# Altium integrated library SparkFun-Boards.IntLib: 52 symbols
Pins are listed as number, name and electrical type; pins without a type are passive.

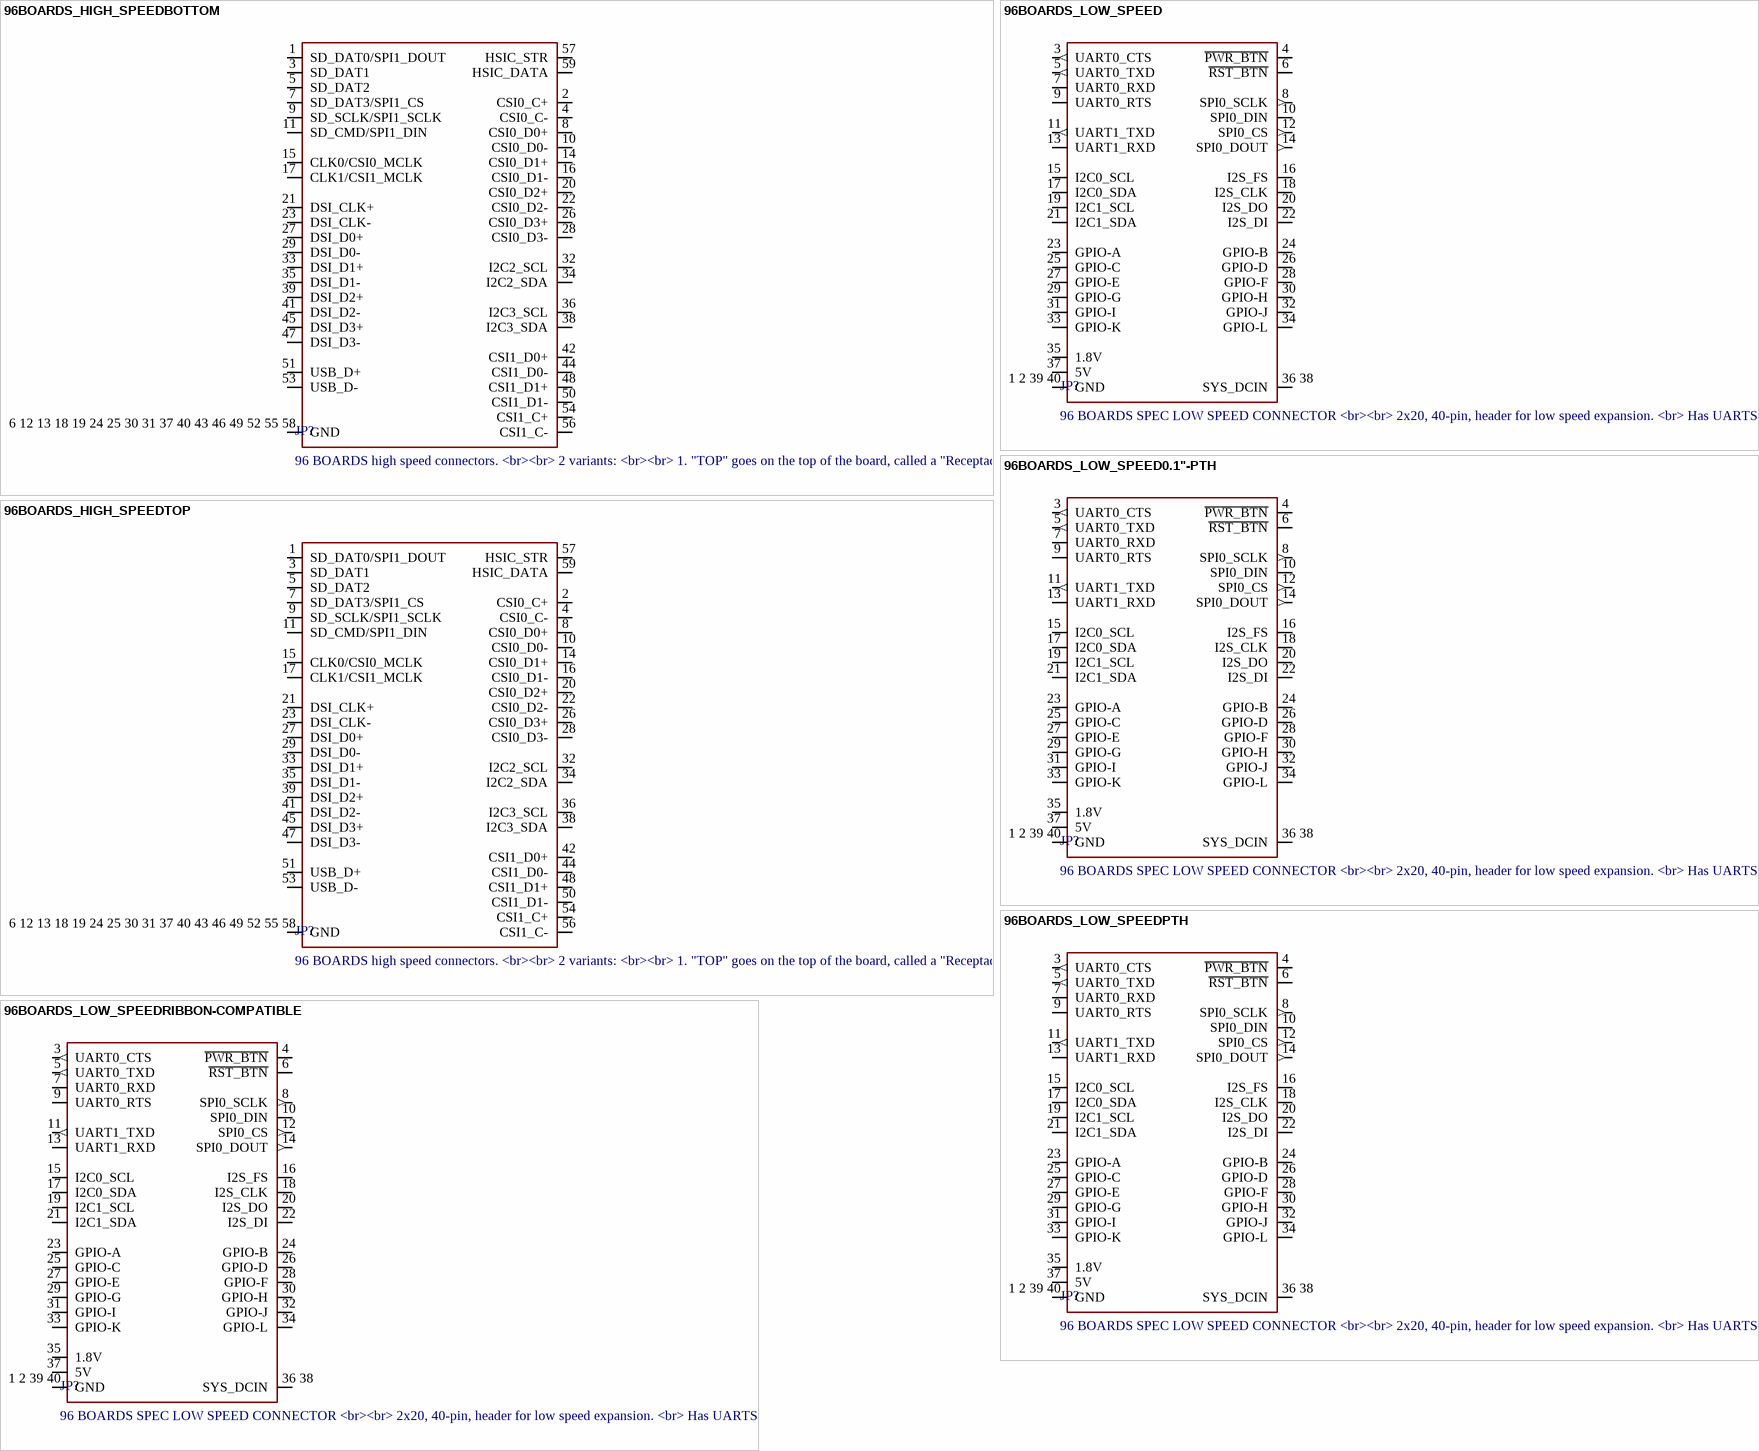
[diagram p0: symbols 96BOARDS_HIGH_SPEEDBOTTOM to 96BOARDS_LOW_SPEEDRIBBON-COMPATIBLE]

## 96BOARDS_HIGH_SPEEDBOTTOM
designator JP?, comment 96 BOARDS high speed connectors. / <br><br> / 2 variants: / <br><br> / 1. "TOP" goes on the top of the board, called a "Receptacale" in the parlance.  Candidate parts would be FCI/Bergquist 61082-061409LF / <br><br> / 2. "BOTTOM" goes on the bottom of a board.  Candidate parts would be FCI 61083-063409LF for 7mm board-to-board clearance, or  61083-064409LF for 8mm clearance. / <br><br> / If you're placing one on the bottom of a board, take care to mind the pin-1 orientation.
footprint 2X30-BERGSTAK-0.8MM-F
pins: 1 SD_DAT0/SPI1_DOUT, 2 CSI0_C+, 3 SD_DAT1, 4 CSI0_C-, 5 SD_DAT2, 6 12 13 18 19 24 25 30 31 37 40 43 46 49 52 55 58 GND, 7 SD_DAT3/SPI1_CS, 8 CSI0_D0+, 9 SD_SCLK/SPI1_SCLK, 10 CSI0_D0-, 11 SD_CMD/SPI1_DIN, 14 CSI0_D1+, 15 CLK0/CSI0_MCLK, 16 CSI0_D1-, 17 CLK1/CSI1_MCLK, 20 CSI0_D2+, 21 DSI_CLK+, 22 CSI0_D2-, 23 DSI_CLK-, 26 CSI0_D3+, 27 DSI_D0+, 28 CSI0_D3-, 29 DSI_D0-, 32 I2C2_SCL, 33 DSI_D1+, 34 I2C2_SDA, 35 DSI_D1-, 36 I2C3_SCL, 38 I2C3_SDA, 39 DSI_D2+, 41 DSI_D2-, 42 CSI1_D0+, 44 CSI1_D0-, 45 DSI_D3+, 47 DSI_D3-, 48 CSI1_D1+, 50 CSI1_D1-, 51 USB_D+, 53 USB_D-, 54 CSI1_C+, 56 CSI1_C-, 57 HSIC_STR, 59 HSIC_DATA

## 96BOARDS_HIGH_SPEEDTOP
designator JP?, comment 96 BOARDS high speed connectors. / <br><br> / 2 variants: / <br><br> / 1. "TOP" goes on the top of the board, called a "Receptacale" in the parlance.  Candidate parts would be FCI/Bergquist 61082-061409LF / <br><br> / 2. "BOTTOM" goes on the bottom of a board.  Candidate parts would be FCI 61083-063409LF for 7mm board-to-board clearance, or  61083-064409LF for 8mm clearance. / <br><br> / If you're placing one on the bottom of a board, take care to mind the pin-1 orientation.
footprint 2X30-BERGSTAK-0.8MM-M
pins: 1 SD_DAT0/SPI1_DOUT, 2 CSI0_C+, 3 SD_DAT1, 4 CSI0_C-, 5 SD_DAT2, 6 12 13 18 19 24 25 30 31 37 40 43 46 49 52 55 58 GND, 7 SD_DAT3/SPI1_CS, 8 CSI0_D0+, 9 SD_SCLK/SPI1_SCLK, 10 CSI0_D0-, 11 SD_CMD/SPI1_DIN, 14 CSI0_D1+, 15 CLK0/CSI0_MCLK, 16 CSI0_D1-, 17 CLK1/CSI1_MCLK, 20 CSI0_D2+, 21 DSI_CLK+, 22 CSI0_D2-, 23 DSI_CLK-, 26 CSI0_D3+, 27 DSI_D0+, 28 CSI0_D3-, 29 DSI_D0-, 32 I2C2_SCL, 33 DSI_D1+, 34 I2C2_SDA, 35 DSI_D1-, 36 I2C3_SCL, 38 I2C3_SDA, 39 DSI_D2+, 41 DSI_D2-, 42 CSI1_D0+, 44 CSI1_D0-, 45 DSI_D3+, 47 DSI_D3-, 48 CSI1_D1+, 50 CSI1_D1-, 51 USB_D+, 53 USB_D-, 54 CSI1_C+, 56 CSI1_C-, 57 HSIC_STR, 59 HSIC_DATA

## 96BOARDS_LOW_SPEED
designator JP?, comment 96 BOARDS SPEC LOW SPEED CONNECTOR <br><br> / 2x20, 40-pin, header for low speed expansion. <br> / Has UARTS, I2C, I2S, SPI and GPIO.<br><br> / * 2mm-pitch variant interfaces directly with the header on a 96-boards-compliant board.<br> / * 0.1-pitch version is for applications where the header has been translated to the larger, more available 0.1" 2x20 connector.<br><br> / For more details, see the spec at https://www.96boards.org
footprint 2X20-2MM-SHROUDED-RA-PTH
pins: 1 2 39 40 GND (power), 3 UART0_CTS (out), 4 ~{PWR_BTN}, 5 UART0_TXD (out), 6 ~{RST_BTN}, 7 UART0_RXD, 8 SPI0_SCLK (out), 9 UART0_RTS, 10 SPI0_DIN, 11 UART1_TXD (out), 12 SPI0_CS (out), 13 UART1_RXD, 14 SPI0_DOUT (out), 15 I2C0_SCL, 16 I2S_FS, 17 I2C0_SDA, 18 I2S_CLK, 19 I2C1_SCL, 20 I2S_DO, 21 I2C1_SDA, 22 I2S_DI, 23 GPIO-A, 24 GPIO-B, 25 GPIO-C, 26 GPIO-D, 27 GPIO-E, 28 GPIO-F, 29 GPIO-G, 30 GPIO-H, 31 GPIO-I, 32 GPIO-J, 33 GPIO-K, 34 GPIO-L, 35 1.8V (power), 36 38 SYS_DCIN (power), 37 5V (power)

## 96BOARDS_LOW_SPEED0.1"-PTH
designator JP?, comment 96 BOARDS SPEC LOW SPEED CONNECTOR <br><br> / 2x20, 40-pin, header for low speed expansion. <br> / Has UARTS, I2C, I2S, SPI and GPIO.<br><br> / * 2mm-pitch variant interfaces directly with the header on a 96-boards-compliant board.<br> / * 0.1-pitch version is for applications where the header has been translated to the larger, more available 0.1" 2x20 connector.<br><br> / For more details, see the spec at https://www.96boards.org
footprint 2X20-SHROUDED
pins: 1 2 39 40 GND (power), 3 UART0_CTS (out), 4 ~{PWR_BTN}, 5 UART0_TXD (out), 6 ~{RST_BTN}, 7 UART0_RXD, 8 SPI0_SCLK (out), 9 UART0_RTS, 10 SPI0_DIN, 11 UART1_TXD (out), 12 SPI0_CS (out), 13 UART1_RXD, 14 SPI0_DOUT (out), 15 I2C0_SCL, 16 I2S_FS, 17 I2C0_SDA, 18 I2S_CLK, 19 I2C1_SCL, 20 I2S_DO, 21 I2C1_SDA, 22 I2S_DI, 23 GPIO-A, 24 GPIO-B, 25 GPIO-C, 26 GPIO-D, 27 GPIO-E, 28 GPIO-F, 29 GPIO-G, 30 GPIO-H, 31 GPIO-I, 32 GPIO-J, 33 GPIO-K, 34 GPIO-L, 35 1.8V (power), 36 38 SYS_DCIN (power), 37 5V (power)

## 96BOARDS_LOW_SPEEDPTH
designator JP?, comment 96 BOARDS SPEC LOW SPEED CONNECTOR <br><br> / 2x20, 40-pin, header for low speed expansion. <br> / Has UARTS, I2C, I2S, SPI and GPIO.<br><br> / * 2mm-pitch variant interfaces directly with the header on a 96-boards-compliant board.<br> / * 0.1-pitch version is for applications where the header has been translated to the larger, more available 0.1" 2x20 connector.<br><br> / For more details, see the spec at https://www.96boards.org
footprint 2X20-2MM-SHROUDED-PTH
pins: 1 2 39 40 GND (power), 3 UART0_CTS (out), 4 ~{PWR_BTN}, 5 UART0_TXD (out), 6 ~{RST_BTN}, 7 UART0_RXD, 8 SPI0_SCLK (out), 9 UART0_RTS, 10 SPI0_DIN, 11 UART1_TXD (out), 12 SPI0_CS (out), 13 UART1_RXD, 14 SPI0_DOUT (out), 15 I2C0_SCL, 16 I2S_FS, 17 I2C0_SDA, 18 I2S_CLK, 19 I2C1_SCL, 20 I2S_DO, 21 I2C1_SDA, 22 I2S_DI, 23 GPIO-A, 24 GPIO-B, 25 GPIO-C, 26 GPIO-D, 27 GPIO-E, 28 GPIO-F, 29 GPIO-G, 30 GPIO-H, 31 GPIO-I, 32 GPIO-J, 33 GPIO-K, 34 GPIO-L, 35 1.8V (power), 36 38 SYS_DCIN (power), 37 5V (power)

## 96BOARDS_LOW_SPEEDRIBBON-COMPATIBLE
designator JP?, comment 96 BOARDS SPEC LOW SPEED CONNECTOR <br><br> / 2x20, 40-pin, header for low speed expansion. <br> / Has UARTS, I2C, I2S, SPI and GPIO.<br><br> / * 2mm-pitch variant interfaces directly with the header on a 96-boards-compliant board.<br> / * 0.1-pitch version is for applications where the header has been translated to the larger, more available 0.1" 2x20 connector.<br><br> / For more details, see the spec at https://www.96boards.org
footprint 2X20-2MM-SHROUDED-SMT-RIBBON-M
pins: 1 2 39 40 GND (power), 3 UART0_CTS (out), 4 ~{PWR_BTN}, 5 UART0_TXD (out), 6 ~{RST_BTN}, 7 UART0_RXD, 8 SPI0_SCLK (out), 9 UART0_RTS, 10 SPI0_DIN, 11 UART1_TXD (out), 12 SPI0_CS (out), 13 UART1_RXD, 14 SPI0_DOUT (out), 15 I2C0_SCL, 16 I2S_FS, 17 I2C0_SDA, 18 I2S_CLK, 19 I2C1_SCL, 20 I2S_DO, 21 I2C1_SDA, 22 I2S_DI, 23 GPIO-A, 24 GPIO-B, 25 GPIO-C, 26 GPIO-D, 27 GPIO-E, 28 GPIO-F, 29 GPIO-G, 30 GPIO-H, 31 GPIO-I, 32 GPIO-J, 33 GPIO-K, 34 GPIO-L, 35 1.8V (power), 36 38 SYS_DCIN (power), 37 5V (power)

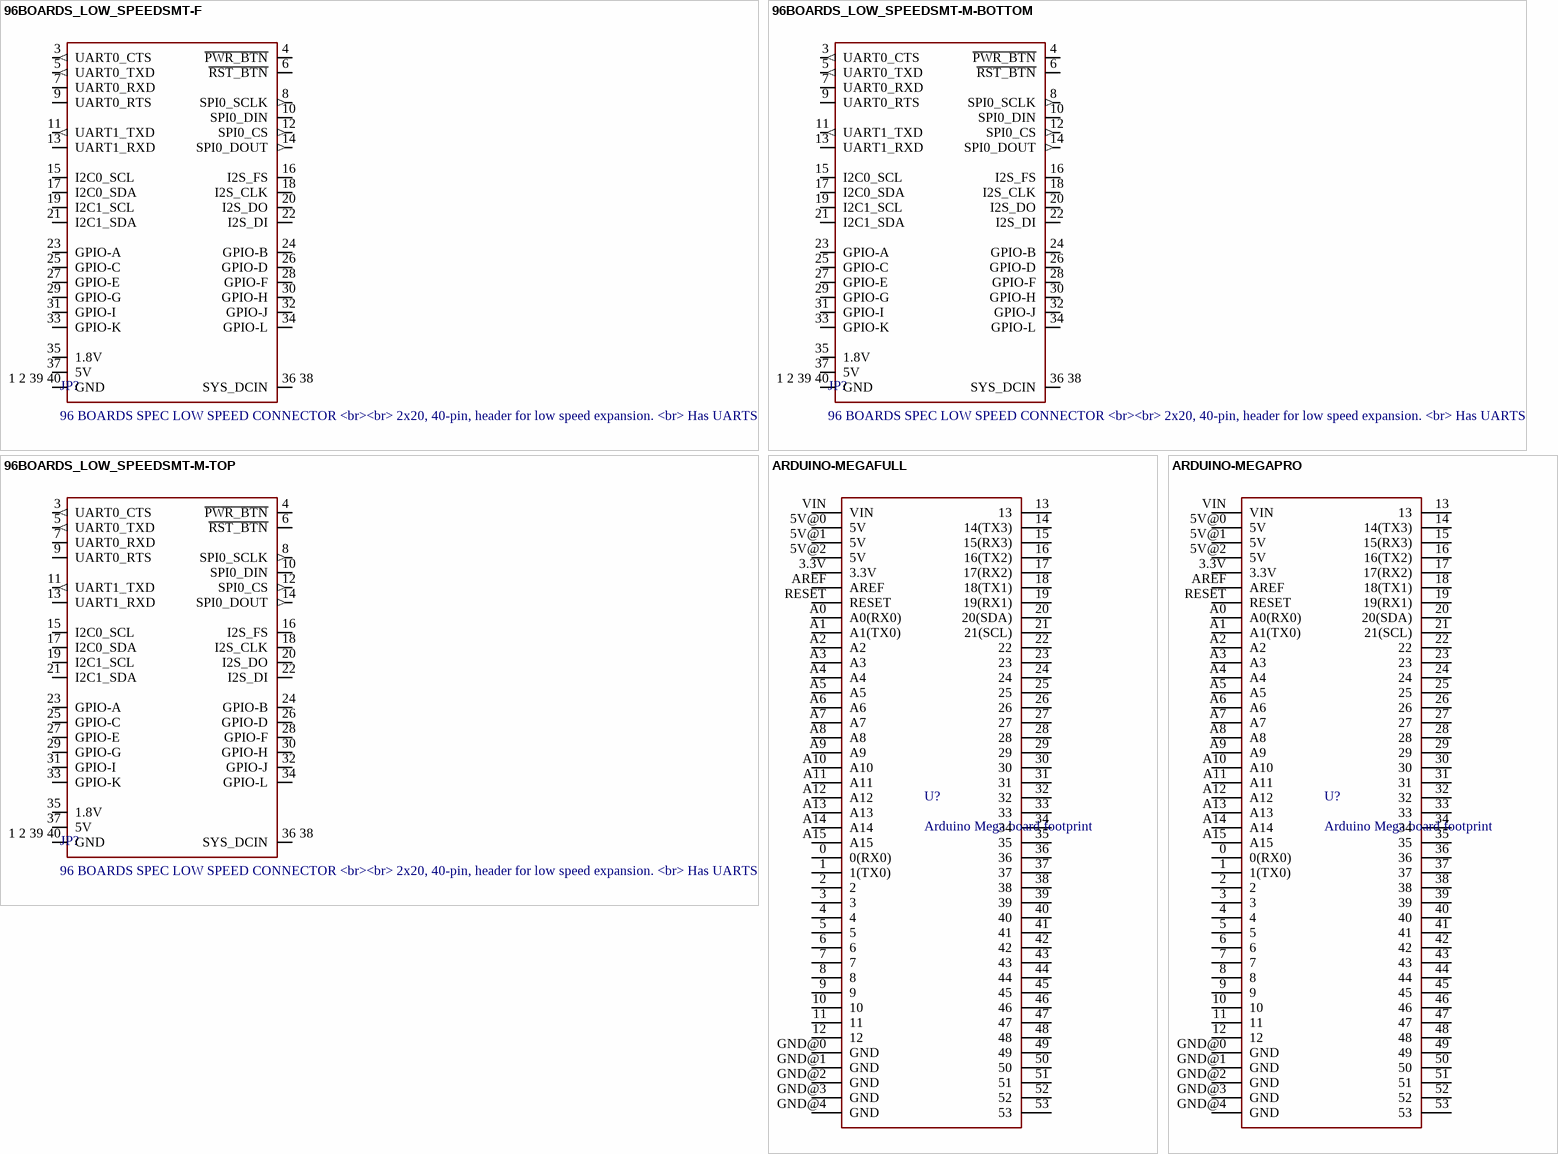
[diagram p1: symbols 96BOARDS_LOW_SPEEDSMT-F to ARDUINO-MEGAPRO]

## 96BOARDS_LOW_SPEEDSMT-F
designator JP?, comment 96 BOARDS SPEC LOW SPEED CONNECTOR <br><br> / 2x20, 40-pin, header for low speed expansion. <br> / Has UARTS, I2C, I2S, SPI and GPIO.<br><br> / * 2mm-pitch variant interfaces directly with the header on a 96-boards-compliant board.<br> / * 0.1-pitch version is for applications where the header has been translated to the larger, more available 0.1" 2x20 connector.<br><br> / For more details, see the spec at https://www.96boards.org
PROD_ID: CONN-12977
footprint 2X20-2MM-SMT-F
pins: 1 2 39 40 GND (power), 3 UART0_CTS (out), 4 ~{PWR_BTN}, 5 UART0_TXD (out), 6 ~{RST_BTN}, 7 UART0_RXD, 8 SPI0_SCLK (out), 9 UART0_RTS, 10 SPI0_DIN, 11 UART1_TXD (out), 12 SPI0_CS (out), 13 UART1_RXD, 14 SPI0_DOUT (out), 15 I2C0_SCL, 16 I2S_FS, 17 I2C0_SDA, 18 I2S_CLK, 19 I2C1_SCL, 20 I2S_DO, 21 I2C1_SDA, 22 I2S_DI, 23 GPIO-A, 24 GPIO-B, 25 GPIO-C, 26 GPIO-D, 27 GPIO-E, 28 GPIO-F, 29 GPIO-G, 30 GPIO-H, 31 GPIO-I, 32 GPIO-J, 33 GPIO-K, 34 GPIO-L, 35 1.8V (power), 36 38 SYS_DCIN (power), 37 5V (power)

## 96BOARDS_LOW_SPEEDSMT-M-BOTTOM
designator JP?, comment 96 BOARDS SPEC LOW SPEED CONNECTOR <br><br> / 2x20, 40-pin, header for low speed expansion. <br> / Has UARTS, I2C, I2S, SPI and GPIO.<br><br> / * 2mm-pitch variant interfaces directly with the header on a 96-boards-compliant board.<br> / * 0.1-pitch version is for applications where the header has been translated to the larger, more available 0.1" 2x20 connector.<br><br> / For more details, see the spec at https://www.96boards.org
PROD_ID: CONN-12975
footprint 2X20-2MM-SHROUDED-SMT-BOTTOM-M
pins: 1 2 39 40 GND (power), 3 UART0_CTS (out), 4 ~{PWR_BTN}, 5 UART0_TXD (out), 6 ~{RST_BTN}, 7 UART0_RXD, 8 SPI0_SCLK (out), 9 UART0_RTS, 10 SPI0_DIN, 11 UART1_TXD (out), 12 SPI0_CS (out), 13 UART1_RXD, 14 SPI0_DOUT (out), 15 I2C0_SCL, 16 I2S_FS, 17 I2C0_SDA, 18 I2S_CLK, 19 I2C1_SCL, 20 I2S_DO, 21 I2C1_SDA, 22 I2S_DI, 23 GPIO-A, 24 GPIO-B, 25 GPIO-C, 26 GPIO-D, 27 GPIO-E, 28 GPIO-F, 29 GPIO-G, 30 GPIO-H, 31 GPIO-I, 32 GPIO-J, 33 GPIO-K, 34 GPIO-L, 35 1.8V (power), 36 38 SYS_DCIN (power), 37 5V (power)

## 96BOARDS_LOW_SPEEDSMT-M-TOP
designator JP?, comment 96 BOARDS SPEC LOW SPEED CONNECTOR <br><br> / 2x20, 40-pin, header for low speed expansion. <br> / Has UARTS, I2C, I2S, SPI and GPIO.<br><br> / * 2mm-pitch variant interfaces directly with the header on a 96-boards-compliant board.<br> / * 0.1-pitch version is for applications where the header has been translated to the larger, more available 0.1" 2x20 connector.<br><br> / For more details, see the spec at https://www.96boards.org
PROD_ID: CONN-12975
footprint 2X20-2MM-SHROUDED-SMT-TOP-M
pins: 1 2 39 40 GND (power), 3 UART0_CTS (out), 4 ~{PWR_BTN}, 5 UART0_TXD (out), 6 ~{RST_BTN}, 7 UART0_RXD, 8 SPI0_SCLK (out), 9 UART0_RTS, 10 SPI0_DIN, 11 UART1_TXD (out), 12 SPI0_CS (out), 13 UART1_RXD, 14 SPI0_DOUT (out), 15 I2C0_SCL, 16 I2S_FS, 17 I2C0_SDA, 18 I2S_CLK, 19 I2C1_SCL, 20 I2S_DO, 21 I2C1_SDA, 22 I2S_DI, 23 GPIO-A, 24 GPIO-B, 25 GPIO-C, 26 GPIO-D, 27 GPIO-E, 28 GPIO-F, 29 GPIO-G, 30 GPIO-H, 31 GPIO-I, 32 GPIO-J, 33 GPIO-K, 34 GPIO-L, 35 1.8V (power), 36 38 SYS_DCIN (power), 37 5V (power)

## ARDUINO-MEGAFULL
designator U?, comment Arduino Mega board footprint
footprint ARDUINO_MEGA
pins: 0 0(RX0), 1 1(TX0), 2, 3, 3.3V, 4, 5, 5V@0 5V, 5V@1 5V, 5V@2 5V, 6, 7, 8, 9, 10, 11, 12, 13, 14 14(TX3), 15 15(RX3), 16 16(TX2), 17 17(RX2), 18 18(TX1), 19 19(RX1), 20 20(SDA), 21 21(SCL), 22, 23, 24, 25, 26, 27, 28, 29, 30, 31, 32, 33, 34, 35, 36, 37, 38, 39, 40, 41, 42, 43, 44, 45, 46, 47, 48, 49, 50, 51, 52, 53, A0 A0(RX0), A1 A1(TX0), A2, A3, A4, A5, A6, A7, A8, A9, A10, A11, A12, A13, A14, A15, AREF, GND@0 GND, GND@1 GND, GND@2 GND, GND@3 GND, GND@4 GND, RESET, VIN

## ARDUINO-MEGAPRO
designator U?, comment Arduino Mega board footprint
footprint ARDUINO_MEGA-PRO-3.3V
pins: 0 0(RX0), 1 1(TX0), 2, 3, 3.3V, 4, 5, 5V@0 5V, 5V@1 5V, 5V@2 5V, 6, 7, 8, 9, 10, 11, 12, 13, 14 14(TX3), 15 15(RX3), 16 16(TX2), 17 17(RX2), 18 18(TX1), 19 19(RX1), 20 20(SDA), 21 21(SCL), 22, 23, 24, 25, 26, 27, 28, 29, 30, 31, 32, 33, 34, 35, 36, 37, 38, 39, 40, 41, 42, 43, 44, 45, 46, 47, 48, 49, 50, 51, 52, 53, A0 A0(RX0), A1 A1(TX0), A2, A3, A4, A5, A6, A7, A8, A9, A10, A11, A12, A13, A14, A15, AREF, GND@0 GND, GND@1 GND, GND@2 GND, GND@3 GND, GND@4 GND, RESET, VIN

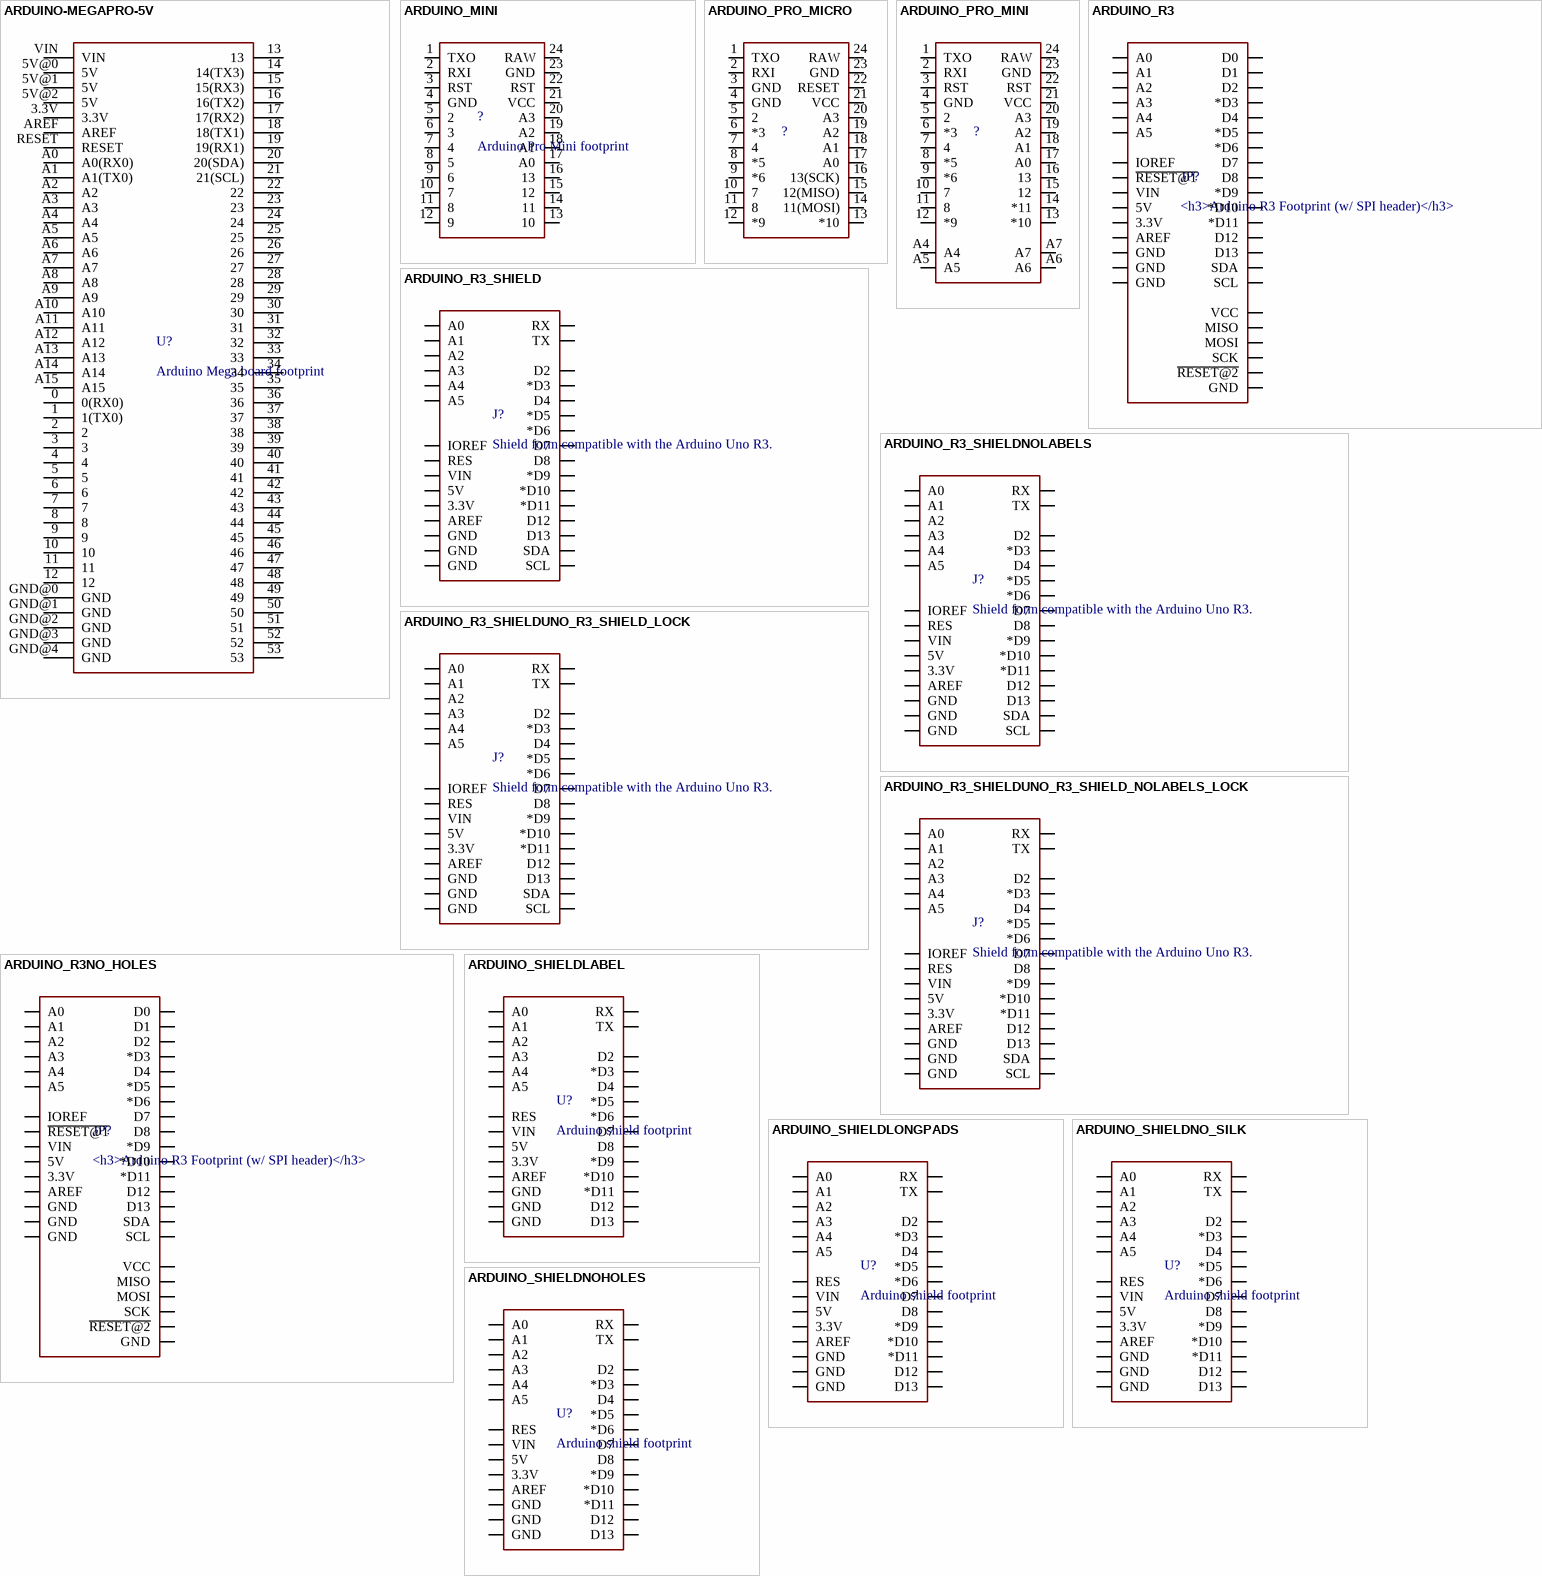
[diagram p2: symbols ARDUINO-MEGAPRO-5V to ARDUINO_SHIELDNOHOLES]

## ARDUINO-MEGAPRO-5V
designator U?, comment Arduino Mega board footprint
footprint ARDUINO_MEGA-PRO-5V
pins: 0 0(RX0), 1 1(TX0), 2, 3, 3.3V, 4, 5, 5V@0 5V, 5V@1 5V, 5V@2 5V, 6, 7, 8, 9, 10, 11, 12, 13, 14 14(TX3), 15 15(RX3), 16 16(TX2), 17 17(RX2), 18 18(TX1), 19 19(RX1), 20 20(SDA), 21 21(SCL), 22, 23, 24, 25, 26, 27, 28, 29, 30, 31, 32, 33, 34, 35, 36, 37, 38, 39, 40, 41, 42, 43, 44, 45, 46, 47, 48, 49, 50, 51, 52, 53, A0 A0(RX0), A1 A1(TX0), A2, A3, A4, A5, A6, A7, A8, A9, A10, A11, A12, A13, A14, A15, AREF, GND@0 GND, GND@1 GND, GND@2 GND, GND@3 GND, GND@4 GND, RESET, VIN

## ARDUINO_MINI
designator ?, comment Arduino Pro Mini footprint
footprint ARDUINO_MINI
pins: 1 TXO, 2 RXI, 3 RST, 4 GND, 5 2, 6 3, 7 4, 8 5, 9 6, 10 7, 11 8, 12 9, 13 10, 14 11, 15 12, 16 13, 17 A0, 18 A1, 19 A2, 20 A3, 21 VCC, 22 RST, 23 GND, 24 RAW

## ARDUINO_PRO_MICRO
designator ?
footprint ARDUINO_PRO_MICRO
pins: 1 TXO, 2 RXI, 3 GND, 4 GND, 5 2, 6 *3, 7 4, 8 *5, 9 *6, 10 7, 11 8, 12 *9, 13 *10, 14 11(MOSI), 15 12(MISO), 16 13(SCK), 17 A0, 18 A1, 19 A2, 20 A3, 21 VCC, 22 RESET, 23 GND, 24 RAW

## ARDUINO_PRO_MINI
designator ?
footprint ARDUINO_PRO_MINI
pins: 1 TXO, 2 RXI, 3 RST, 4 GND, 5 2, 6 *3, 7 4, 8 *5, 9 *6, 10 7, 11 8, 12 *9, 13 *10, 14 *11, 15 12, 16 13, 17 A0, 18 A1, 19 A2, 20 A3, 21 VCC, 22 RST, 23 GND, 24 RAW, A4, A5, A6, A7

## ARDUINO_R3
designator JP?, comment <h3>Arduino R3 Footprint (w/ SPI header)</h3>
footprint ARDUINO_R3
pins: 3.3V, 5V, A0, A1, A2, A3, A4, A5, AREF, D0, D1, D2, D3 *D3, D4, D5 *D5, D6 *D6, D7, D8, D9 *D9, D10 *D10, D11 *D11, D12, D13, GND@1 GND, GND@2 GND, GND@3 GND, GND@4 GND, IOREF, MISO, MOSI, RESET@1 ~{RESET@1}, RESET@2 ~{RESET@2}, SCK, SCL, SDA, VCC, VIN

## ARDUINO_R3_SHIELD
designator J?, comment Shield form compatible with the Arduino Uno R3.
footprint UNO_R3_SHIELD
pins: 3.3V, 5V, A0, A1, A2, A3, A4, A5, AREF, D2, D3 *D3, D4, D5 *D5, D6 *D6, D7, D8, D9 *D9, D10 *D10, D11 *D11, D12, D13, GND@0 GND, GND@1 GND, GND@2 GND, IOREF, RES, RX, SCL, SDA, TX, VIN

## ARDUINO_R3_SHIELDNOLABELS
designator J?, comment Shield form compatible with the Arduino Uno R3.
footprint UNO_R3_SHIELD_NOLABELS
pins: 3.3V, 5V, A0, A1, A2, A3, A4, A5, AREF, D2, D3 *D3, D4, D5 *D5, D6 *D6, D7, D8, D9 *D9, D10 *D10, D11 *D11, D12, D13, GND@0 GND, GND@1 GND, GND@2 GND, IOREF, RES, RX, SCL, SDA, TX, VIN

## ARDUINO_R3_SHIELDUNO_R3_SHIELD_LOCK
designator J?, comment Shield form compatible with the Arduino Uno R3.
footprint UNO_R3_SHIELD_LOCK
pins: 3.3V, 5V, A0, A1, A2, A3, A4, A5, AREF, D2, D3 *D3, D4, D5 *D5, D6 *D6, D7, D8, D9 *D9, D10 *D10, D11 *D11, D12, D13, GND@0 GND, GND@1 GND, GND@2 GND, IOREF, RES, RX, SCL, SDA, TX, VIN

## ARDUINO_R3_SHIELDUNO_R3_SHIELD_NOLABELS_LOCK
designator J?, comment Shield form compatible with the Arduino Uno R3.
footprint UNO_R3_SHIELD_NOLABELS_LOCK
pins: 3.3V, 5V, A0, A1, A2, A3, A4, A5, AREF, D2, D3 *D3, D4, D5 *D5, D6 *D6, D7, D8, D9 *D9, D10 *D10, D11 *D11, D12, D13, GND@0 GND, GND@1 GND, GND@2 GND, IOREF, RES, RX, SCL, SDA, TX, VIN

## ARDUINO_R3NO_HOLES
designator JP?, comment <h3>Arduino R3 Footprint (w/ SPI header)</h3>
footprint ARDUINO_R3_NO_HOLES
pins: 3.3V, 5V, A0, A1, A2, A3, A4, A5, AREF, D0, D1, D2, D3 *D3, D4, D5 *D5, D6 *D6, D7, D8, D9 *D9, D10 *D10, D11 *D11, D12, D13, GND@1 GND, GND@2 GND, GND@3 GND, GND@4 GND, IOREF, MISO, MOSI, RESET@1 ~{RESET@1}, RESET@2 ~{RESET@2}, SCK, SCL, SDA, VCC, VIN

## ARDUINO_SHIELDLABEL
designator U?, comment Arduino shield footprint
footprint DUEMILANOVE_SHIELD
pins: 3.3V, 5V, A0, A1, A2, A3, A4, A5, AREF, D2, D3 *D3, D4, D5 *D5, D6 *D6, D7, D8, D9 *D9, D10 *D10, D11 *D11, D12, D13, GND@0 GND, GND@1 GND, GND@2 GND, RES, RX, TX, VIN

## ARDUINO_SHIELDLONGPADS
designator U?, comment Arduino shield footprint
footprint DUEMILANOVE_SHIELD_LONGPADS
pins: 3.3V, 5V, A0, A1, A2, A3, A4, A5, AREF, D2, D3 *D3, D4, D5 *D5, D6 *D6, D7, D8, D9 *D9, D10 *D10, D11 *D11, D12, D13, GND@0 GND, GND@1 GND, GND@2 GND, RES, RX, TX, VIN

## ARDUINO_SHIELDNO_SILK
designator U?, comment Arduino shield footprint
footprint DUEMILANOVE_VIAS
pins: 3.3V, 5V, A0, A1, A2, A3, A4, A5, AREF, D2, D3 *D3, D4, D5 *D5, D6 *D6, D7, D8, D9 *D9, D10 *D10, D11 *D11, D12, D13, GND@0 GND, GND@1 GND, GND@2 GND, RES, RX, TX, VIN

## ARDUINO_SHIELDNOHOLES
designator U?, comment Arduino shield footprint
footprint DUEMILANOVE_SHIELD_NOHOLES
pins: 3.3V, 5V, A0, A1, A2, A3, A4, A5, AREF, D2, D3 *D3, D4, D5 *D5, D6 *D6, D7, D8, D9 *D9, D10 *D10, D11 *D11, D12, D13, GND@0 GND, GND@1 GND, GND@2 GND, RES, RX, TX, VIN

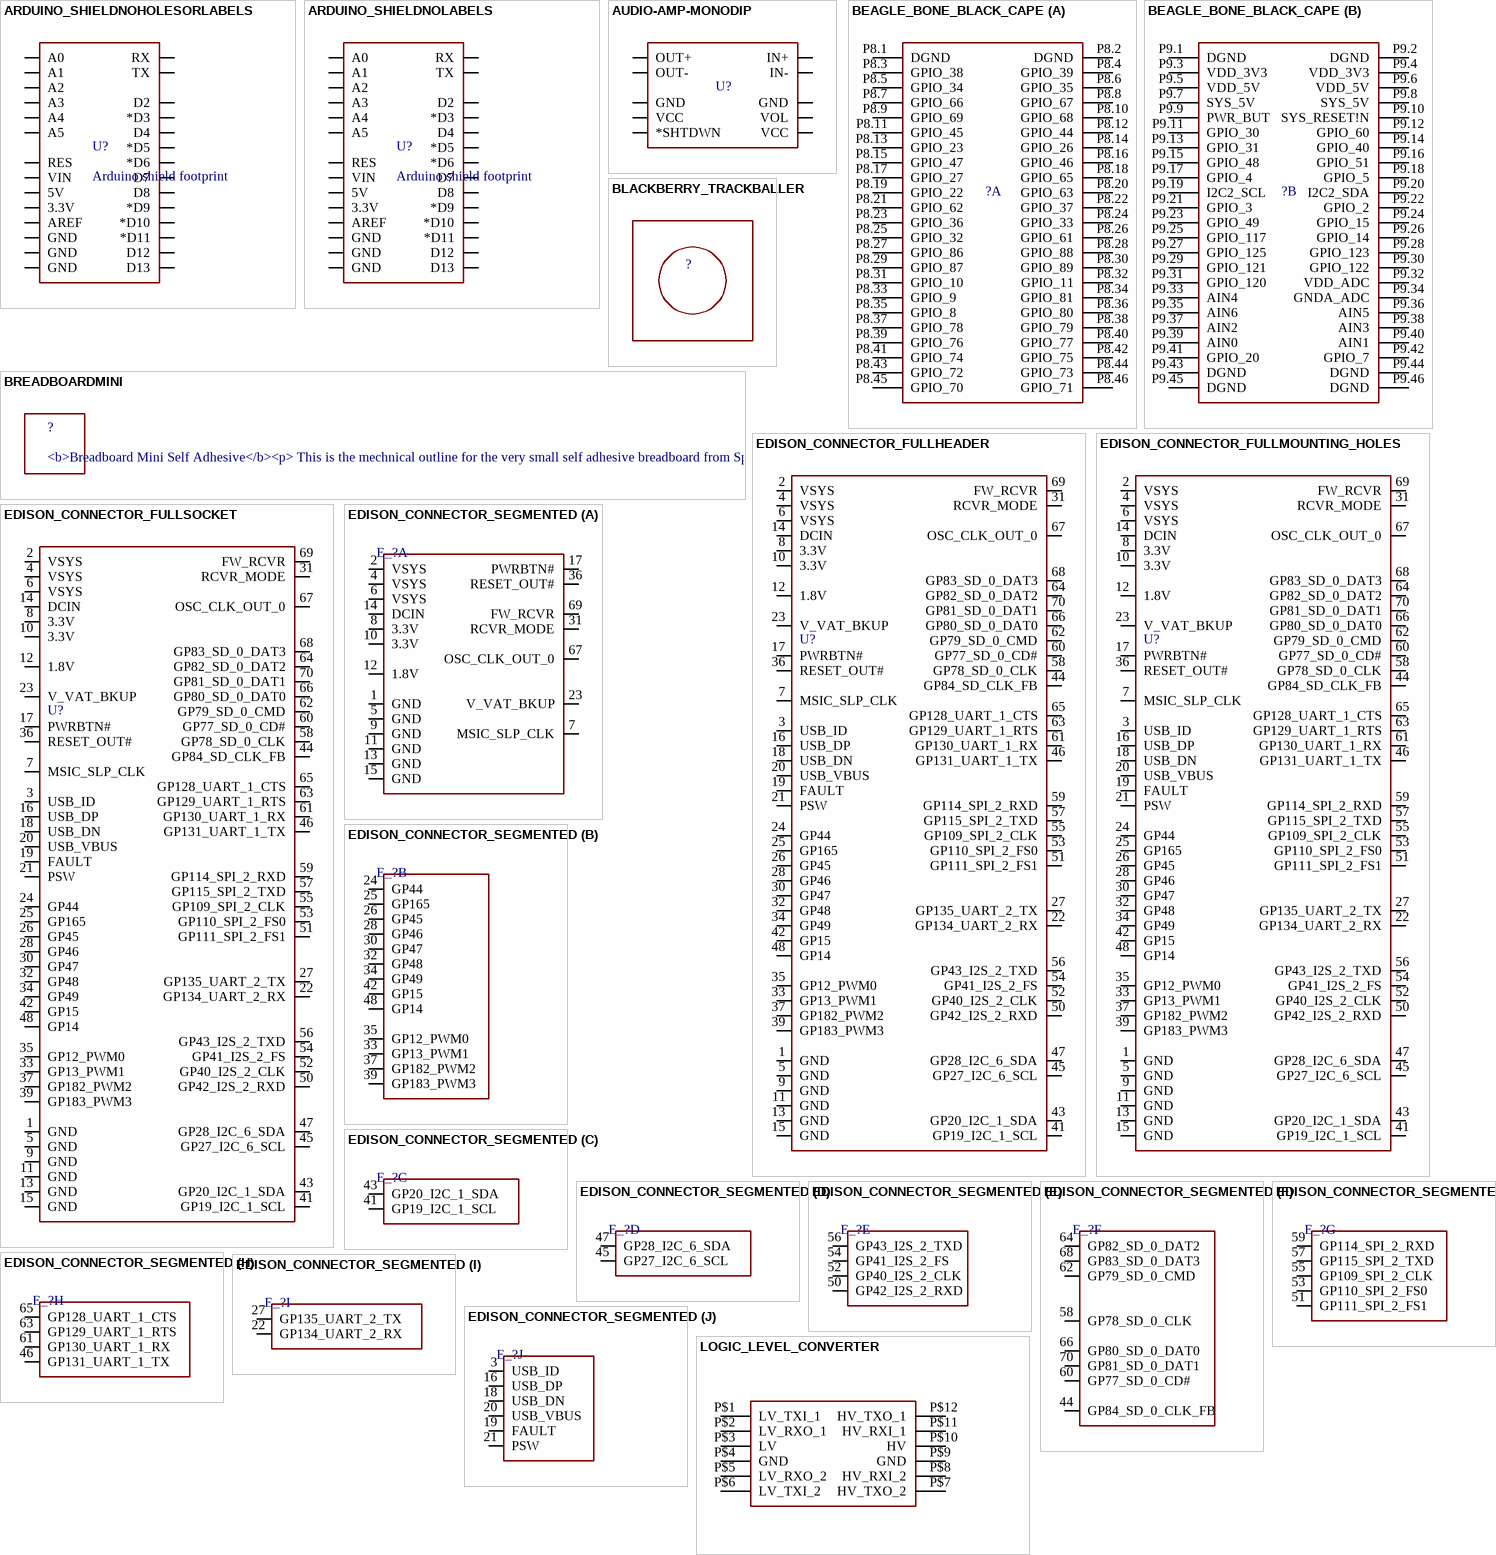
[diagram p3: symbols ARDUINO_SHIELDNOHOLESORLABELS to LOGIC_LEVEL_CONVERTER]

## ARDUINO_SHIELDNOHOLESORLABELS
designator U?, comment Arduino shield footprint
footprint DUEMILANOVE_SHIELD_NOHOLES_NOLABELS
pins: 3.3V, 5V, A0, A1, A2, A3, A4, A5, AREF, D2, D3 *D3, D4, D5 *D5, D6 *D6, D7, D8, D9 *D9, D10 *D10, D11 *D11, D12, D13, GND@0 GND, GND@1 GND, GND@2 GND, RES, RX, TX, VIN

## ARDUINO_SHIELDNOLABELS
designator U?, comment Arduino shield footprint
footprint DUEMILANOVE_SHIELD_NOLABELS
pins: 3.3V, 5V, A0, A1, A2, A3, A4, A5, AREF, D2, D3 *D3, D4, D5 *D5, D6 *D6, D7, D8, D9 *D9, D10 *D10, D11 *D11, D12, D13, GND@0 GND, GND@1 GND, GND@2 GND, RES, RX, TX, VIN

## AUDIO-AMP-MONODIP
designator U?
footprint AUDIO-AMP-MONO
pins: IN+, IN-, OUT+, OUT-, PWR+ VCC, PWR- GND, S *SHTDWN, VOL, VOL+ VCC, VOL- GND

## BEAGLE_BONE_BLACK_CAPE
designator ?
footprint BEAGLE_BONE_BLACK_CAPE
part A pins: P8.1 DGND, P8.2 DGND, P8.3 GPIO_38, P8.4 GPIO_39, P8.5 GPIO_34, P8.6 GPIO_35, P8.7 GPIO_66, P8.8 GPIO_67, P8.9 GPIO_69, P8.10 GPIO_68, P8.11 GPIO_45, P8.12 GPIO_44, P8.13 GPIO_23, P8.14 GPIO_26, P8.15 GPIO_47, P8.16 GPIO_46, P8.17 GPIO_27, P8.18 GPIO_65, P8.19 GPIO_22, P8.20 GPIO_63, P8.21 GPIO_62, P8.22 GPIO_37, P8.23 GPIO_36, P8.24 GPIO_33, P8.25 GPIO_32, P8.26 GPIO_61, P8.27 GPIO_86, P8.28 GPIO_88, P8.29 GPIO_87, P8.30 GPIO_89, P8.31 GPIO_10, P8.32 GPIO_11, P8.33 GPIO_9, P8.34 GPIO_81, P8.35 GPIO_8, P8.36 GPIO_80, P8.37 GPIO_78, P8.38 GPIO_79, P8.39 GPIO_76, P8.40 GPIO_77, P8.41 GPIO_74, P8.42 GPIO_75, P8.43 GPIO_72, P8.44 GPIO_73, P8.45 GPIO_70, P8.46 GPIO_71
part B pins: P9.1 DGND, P9.2 DGND, P9.3 VDD_3V3, P9.4 VDD_3V3, P9.5 VDD_5V, P9.6 VDD_5V, P9.7 SYS_5V, P9.8 SYS_5V, P9.9 PWR_BUT, P9.10 SYS_RESET!N, P9.11 GPIO_30, P9.12 GPIO_60, P9.13 GPIO_31, P9.14 GPIO_40, P9.15 GPIO_48, P9.16 GPIO_51, P9.17 GPIO_4, P9.18 GPIO_5, P9.19 I2C2_SCL, P9.20 I2C2_SDA, P9.21 GPIO_3, P9.22 GPIO_2, P9.23 GPIO_49, P9.24 GPIO_15, P9.25 GPIO_117, P9.26 GPIO_14, P9.27 GPIO_125, P9.28 GPIO_123, P9.29 GPIO_121, P9.30 GPIO_122, P9.31 GPIO_120, P9.32 VDD_ADC, P9.33 AIN4, P9.34 GNDA_ADC, P9.35 AIN6, P9.36 AIN5, P9.37 AIN2, P9.38 AIN3, P9.39 AIN0, P9.40 AIN1, P9.41 GPIO_20, P9.42 GPIO_7, P9.43 DGND, P9.44 DGND, P9.45 DGND, P9.46 DGND

## BLACKBERRY_TRACKBALLER
designator ?
PROD_ID: PCB-12486
footprint BLACKBERRY_TRACKBALLER

## BREADBOARDMINI
designator ?, comment <b>Breadboard Mini Self Adhesive</b><p> / This is the mechnical outline for the very small self adhesive breadboard from SparkFun Electronics. Good for very small proto areas. SKU : PRT-07916
footprint BREADBOARD-MINI

## EDISON_CONNECTOR_FULLHEADER
designator U?
footprint DF40C-70DP-0.4(51)
pins: 1 GND, 2 VSYS, 3 USB_ID, 4 VSYS, 5 GND, 6 VSYS, 7 MSIC_SLP_CLK, 8 3.3V, 9 GND, 10 3.3V, 11 GND, 12 1.8V, 13 GND, 14 DCIN, 15 GND, 16 USB_DP, 17 PWRBTN#, 18 USB_DN, 19 FAULT, 20 USB_VBUS, 21 PSW, 22 GP134_UART_2_RX, 23 V_VAT_BKUP, 24 GP44, 25 GP165, 26 GP45, 27 GP135_UART_2_TX, 28 GP46, 30 GP47, 31 RCVR_MODE, 32 GP48, 33 GP13_PWM1, 34 GP49, 35 GP12_PWM0, 36 RESET_OUT#, 37 GP182_PWM2, 39 GP183_PWM3, 41 GP19_I2C_1_SCL, 42 GP15, 43 GP20_I2C_1_SDA, 44 GP84_SD_CLK_FB, 45 GP27_I2C_6_SCL, 46 GP131_UART_1_TX, 47 GP28_I2C_6_SDA, 48 GP14, 50 GP42_I2S_2_RXD, 51 GP111_SPI_2_FS1, 52 GP40_I2S_2_CLK, 53 GP110_SPI_2_FS0, 54 GP41_I2S_2_FS, 55 GP109_SPI_2_CLK, 56 GP43_I2S_2_TXD, 57 GP115_SPI_2_TXD, 58 GP78_SD_0_CLK, 59 GP114_SPI_2_RXD, 60 GP77_SD_0_CD#, 61 GP130_UART_1_RX, 62 GP79_SD_0_CMD, 63 GP129_UART_1_RTS, 64 GP82_SD_0_DAT2, 65 GP128_UART_1_CTS, 66 GP80_SD_0_DAT0, 67 OSC_CLK_OUT_0, 68 GP83_SD_0_DAT3, 69 FW_RCVR, 70 GP81_SD_0_DAT1

## EDISON_CONNECTOR_FULLMOUNTING_HOLES
designator U?
footprint EDISON_DAUGHTER
pins: 1 GND, 2 VSYS, 3 USB_ID, 4 VSYS, 5 GND, 6 VSYS, 7 MSIC_SLP_CLK, 8 3.3V, 9 GND, 10 3.3V, 11 GND, 12 1.8V, 13 GND, 14 DCIN, 15 GND, 16 USB_DP, 17 PWRBTN#, 18 USB_DN, 19 FAULT, 20 USB_VBUS, 21 PSW, 22 GP134_UART_2_RX, 23 V_VAT_BKUP, 24 GP44, 25 GP165, 26 GP45, 27 GP135_UART_2_TX, 28 GP46, 30 GP47, 31 RCVR_MODE, 32 GP48, 33 GP13_PWM1, 34 GP49, 35 GP12_PWM0, 36 RESET_OUT#, 37 GP182_PWM2, 39 GP183_PWM3, 41 GP19_I2C_1_SCL, 42 GP15, 43 GP20_I2C_1_SDA, 44 GP84_SD_CLK_FB, 45 GP27_I2C_6_SCL, 46 GP131_UART_1_TX, 47 GP28_I2C_6_SDA, 48 GP14, 50 GP42_I2S_2_RXD, 51 GP111_SPI_2_FS1, 52 GP40_I2S_2_CLK, 53 GP110_SPI_2_FS0, 54 GP41_I2S_2_FS, 55 GP109_SPI_2_CLK, 56 GP43_I2S_2_TXD, 57 GP115_SPI_2_TXD, 58 GP78_SD_0_CLK, 59 GP114_SPI_2_RXD, 60 GP77_SD_0_CD#, 61 GP130_UART_1_RX, 62 GP79_SD_0_CMD, 63 GP129_UART_1_RTS, 64 GP82_SD_0_DAT2, 65 GP128_UART_1_CTS, 66 GP80_SD_0_DAT0, 67 OSC_CLK_OUT_0, 68 GP83_SD_0_DAT3, 69 FW_RCVR, 70 GP81_SD_0_DAT1

## EDISON_CONNECTOR_FULLSOCKET
designator U?
footprint DF40-XC-(X.X)-70DS-0.4V(51)
pins: 1 GND, 2 VSYS, 3 USB_ID, 4 VSYS, 5 GND, 6 VSYS, 7 MSIC_SLP_CLK, 8 3.3V, 9 GND, 10 3.3V, 11 GND, 12 1.8V, 13 GND, 14 DCIN, 15 GND, 16 USB_DP, 17 PWRBTN#, 18 USB_DN, 19 FAULT, 20 USB_VBUS, 21 PSW, 22 GP134_UART_2_RX, 23 V_VAT_BKUP, 24 GP44, 25 GP165, 26 GP45, 27 GP135_UART_2_TX, 28 GP46, 30 GP47, 31 RCVR_MODE, 32 GP48, 33 GP13_PWM1, 34 GP49, 35 GP12_PWM0, 36 RESET_OUT#, 37 GP182_PWM2, 39 GP183_PWM3, 41 GP19_I2C_1_SCL, 42 GP15, 43 GP20_I2C_1_SDA, 44 GP84_SD_CLK_FB, 45 GP27_I2C_6_SCL, 46 GP131_UART_1_TX, 47 GP28_I2C_6_SDA, 48 GP14, 50 GP42_I2S_2_RXD, 51 GP111_SPI_2_FS1, 52 GP40_I2S_2_CLK, 53 GP110_SPI_2_FS0, 54 GP41_I2S_2_FS, 55 GP109_SPI_2_CLK, 56 GP43_I2S_2_TXD, 57 GP115_SPI_2_TXD, 58 GP78_SD_0_CLK, 59 GP114_SPI_2_RXD, 60 GP77_SD_0_CD#, 61 GP130_UART_1_RX, 62 GP79_SD_0_CMD, 63 GP129_UART_1_RTS, 64 GP82_SD_0_DAT2, 65 GP128_UART_1_CTS, 66 GP80_SD_0_DAT0, 67 OSC_CLK_OUT_0, 68 GP83_SD_0_DAT3, 69 FW_RCVR, 70 GP81_SD_0_DAT1

## EDISON_CONNECTOR_SEGMENTED
designator E_?
footprint EDISON_DAUGHTER
part A pins: 1 GND, 2 VSYS, 4 VSYS, 5 GND, 6 VSYS, 7 MSIC_SLP_CLK, 8 3.3V, 9 GND, 10 3.3V, 11 GND, 12 1.8V, 13 GND, 14 DCIN, 15 GND, 17 PWRBTN#, 23 V_VAT_BKUP, 31 RCVR_MODE, 36 RESET_OUT#, 67 OSC_CLK_OUT_0, 69 FW_RCVR
part B pins: 24 GP44, 25 GP165, 26 GP45, 28 GP46, 30 GP47, 32 GP48, 33 GP13_PWM1, 34 GP49, 35 GP12_PWM0, 37 GP182_PWM2, 39 GP183_PWM3, 42 GP15, 48 GP14
part C pins: 41 GP19_I2C_1_SCL, 43 GP20_I2C_1_SDA
part D pins: 45 GP27_I2C_6_SCL, 47 GP28_I2C_6_SDA
part E pins: 50 GP42_I2S_2_RXD, 52 GP40_I2S_2_CLK, 54 GP41_I2S_2_FS, 56 GP43_I2S_2_TXD
part F pins: 44 GP84_SD_0_CLK_FB, 58 GP78_SD_0_CLK, 60 GP77_SD_0_CD#, 62 GP79_SD_0_CMD, 64 GP82_SD_0_DAT2, 66 GP80_SD_0_DAT0, 68 GP83_SD_0_DAT3, 70 GP81_SD_0_DAT1
part G pins: 51 GP111_SPI_2_FS1, 53 GP110_SPI_2_FS0, 55 GP109_SPI_2_CLK, 57 GP115_SPI_2_TXD, 59 GP114_SPI_2_RXD
part H pins: 46 GP131_UART_1_TX, 61 GP130_UART_1_RX, 63 GP129_UART_1_RTS, 65 GP128_UART_1_CTS
part I pins: 22 GP134_UART_2_RX, 27 GP135_UART_2_TX
part J pins: 3 USB_ID, 16 USB_DP, 18 USB_DN, 19 FAULT, 20 USB_VBUS, 21 PSW

## LOGIC_LEVEL_CONVERTER
designator ?, comment Logic Level Converter (3.3v - 5v) / https://www.sparkfun.com/products/8745
footprint LOGIC_LEVEL_CONVERTER
pins: P$1 LV_TXI_1, P$2 LV_RXO_1, P$3 LV, P$4 GND, P$5 LV_RXO_2, P$6 LV_TXI_2, P$7 HV_TXO_2, P$8 HV_RXI_2, P$9 GND, P$10 HV, P$11 HV_RXI_1, P$12 HV_TXO_1

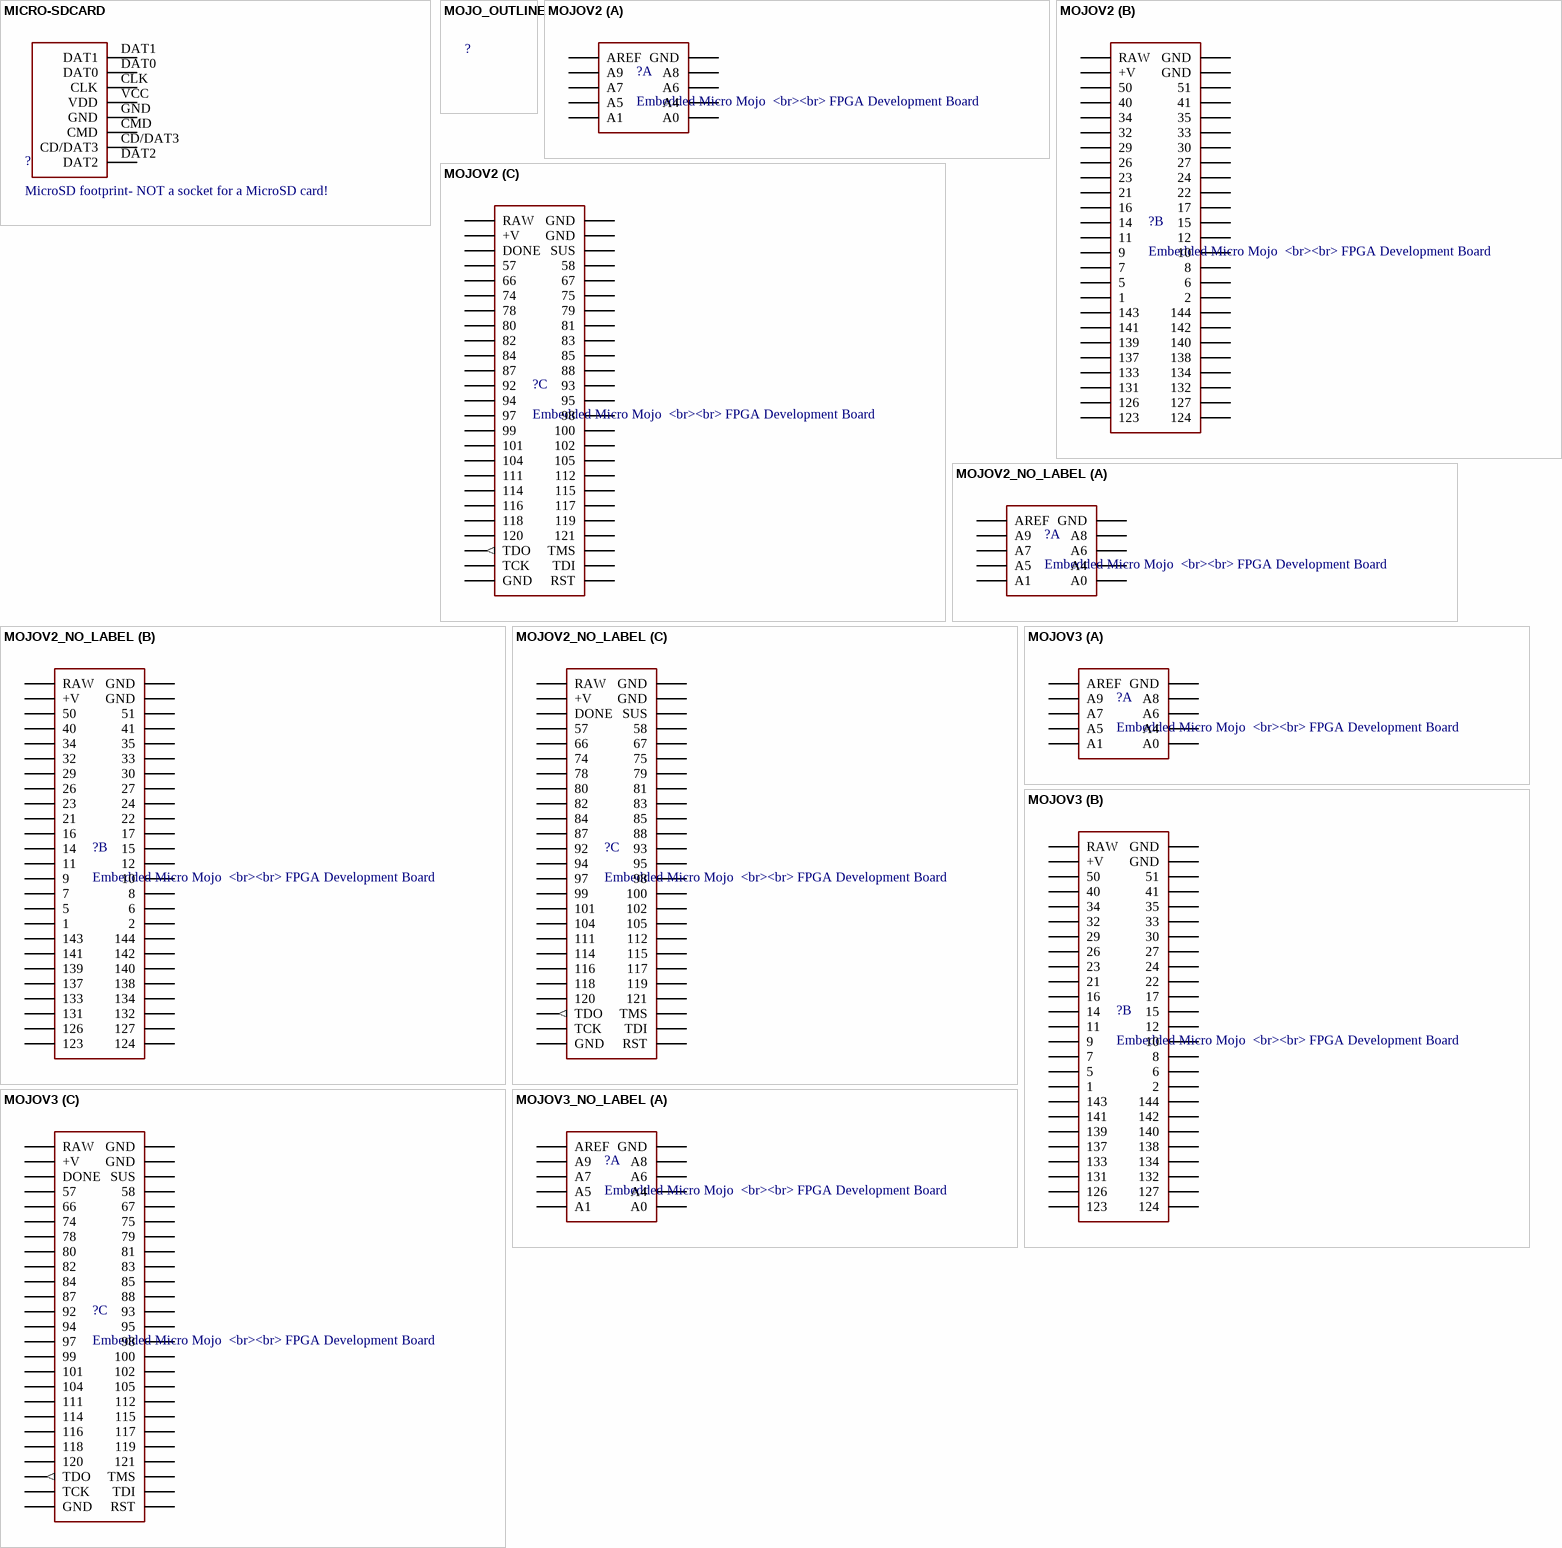
[diagram p4: symbols MICRO-SDCARD to MOJOV3_NO_LABEL]

## MICRO-SDCARD
designator ?, comment MicroSD footprint- NOT a socket for a MicroSD card!
footprint MICRO-SDCARD
pins: CD/DAT3, CLK, CMD, DAT0, DAT1, DAT2, GND, VCC VDD

## MOJO_OUTLINE
designator ?
footprint MOJO_OUTLINE

## MOJOV2
designator ?, comment Embedded Micro Mojo / <br><br> / FPGA Development Board
footprint MOJO_V2
part A pins: A0, A1, A4, A5, A6, A7, A8, A9, AREF, GND@5 GND (oe)
part B pins: 1, 2, 5, 6, 7, 8, 9, 10, 11, 12, 14, 15, 16, 17, 21, 22, 23, 24, 26, 27, 29, 30, 32, 33, 34, 35, 40, 41, 50, 51, 123, 124, 126, 127, 131, 132, 133, 134, 137, 138, 139, 140, 141, 142, 143, 144, GND@1 GND (oe), GND@2 GND (oe), RAW@1 RAW (oe), V@1 +V (oe)
part C pins: 57, 58, 66, 67, 74, 75, 78, 79, 80, 81, 82, 83, 84, 85, 87, 88, 92, 93, 94, 95, 97, 98, 99, 100, 101, 102, 104, 105, 111, 112, 114, 115, 116, 117, 118, 119, 120, 121, DONE, GND@3 GND (oe), GND@4 GND (oe), GND@6 GND (oe), RAW@2 RAW (oe), RST, SUS, TCK, TDI, TDO (out), TMS, V@2 +V (oe)

## MOJOV2_NO_LABEL
designator ?, comment Embedded Micro Mojo / <br><br> / FPGA Development Board
footprint MOJO_V2_NO_LABEL
part A pins: A0, A1, A4, A5, A6, A7, A8, A9, AREF, GND@5 GND (oe)
part B pins: 1, 2, 5, 6, 7, 8, 9, 10, 11, 12, 14, 15, 16, 17, 21, 22, 23, 24, 26, 27, 29, 30, 32, 33, 34, 35, 40, 41, 50, 51, 123, 124, 126, 127, 131, 132, 133, 134, 137, 138, 139, 140, 141, 142, 143, 144, GND@1 GND (oe), GND@2 GND (oe), RAW@1 RAW (oe), V@1 +V (oe)
part C pins: 57, 58, 66, 67, 74, 75, 78, 79, 80, 81, 82, 83, 84, 85, 87, 88, 92, 93, 94, 95, 97, 98, 99, 100, 101, 102, 104, 105, 111, 112, 114, 115, 116, 117, 118, 119, 120, 121, DONE, GND@3 GND (oe), GND@4 GND (oe), GND@6 GND (oe), RAW@2 RAW (oe), RST, SUS, TCK, TDI, TDO (out), TMS, V@2 +V (oe)

## MOJOV3
designator ?, comment Embedded Micro Mojo / <br><br> / FPGA Development Board
footprint MOJO_V3
part A pins: A0, A1, A4, A5, A6, A7, A8, A9, AREF, GND@5 GND (oe)
part B pins: 1, 2, 5, 6, 7, 8, 9, 10, 11, 12, 14, 15, 16, 17, 21, 22, 23, 24, 26, 27, 29, 30, 32, 33, 34, 35, 40, 41, 50, 51, 123, 124, 126, 127, 131, 132, 133, 134, 137, 138, 139, 140, 141, 142, 143, 144, GND@1 GND (oe), GND@2 GND (oe), RAW@1 RAW (oe), V@1 +V (oe)
part C pins: 57, 58, 66, 67, 74, 75, 78, 79, 80, 81, 82, 83, 84, 85, 87, 88, 92, 93, 94, 95, 97, 98, 99, 100, 101, 102, 104, 105, 111, 112, 114, 115, 116, 117, 118, 119, 120, 121, DONE, GND@3 GND (oe), GND@4 GND (oe), GND@6 GND (oe), RAW@2 RAW (oe), RST, SUS, TCK, TDI, TDO (out), TMS, V@2 +V (oe)

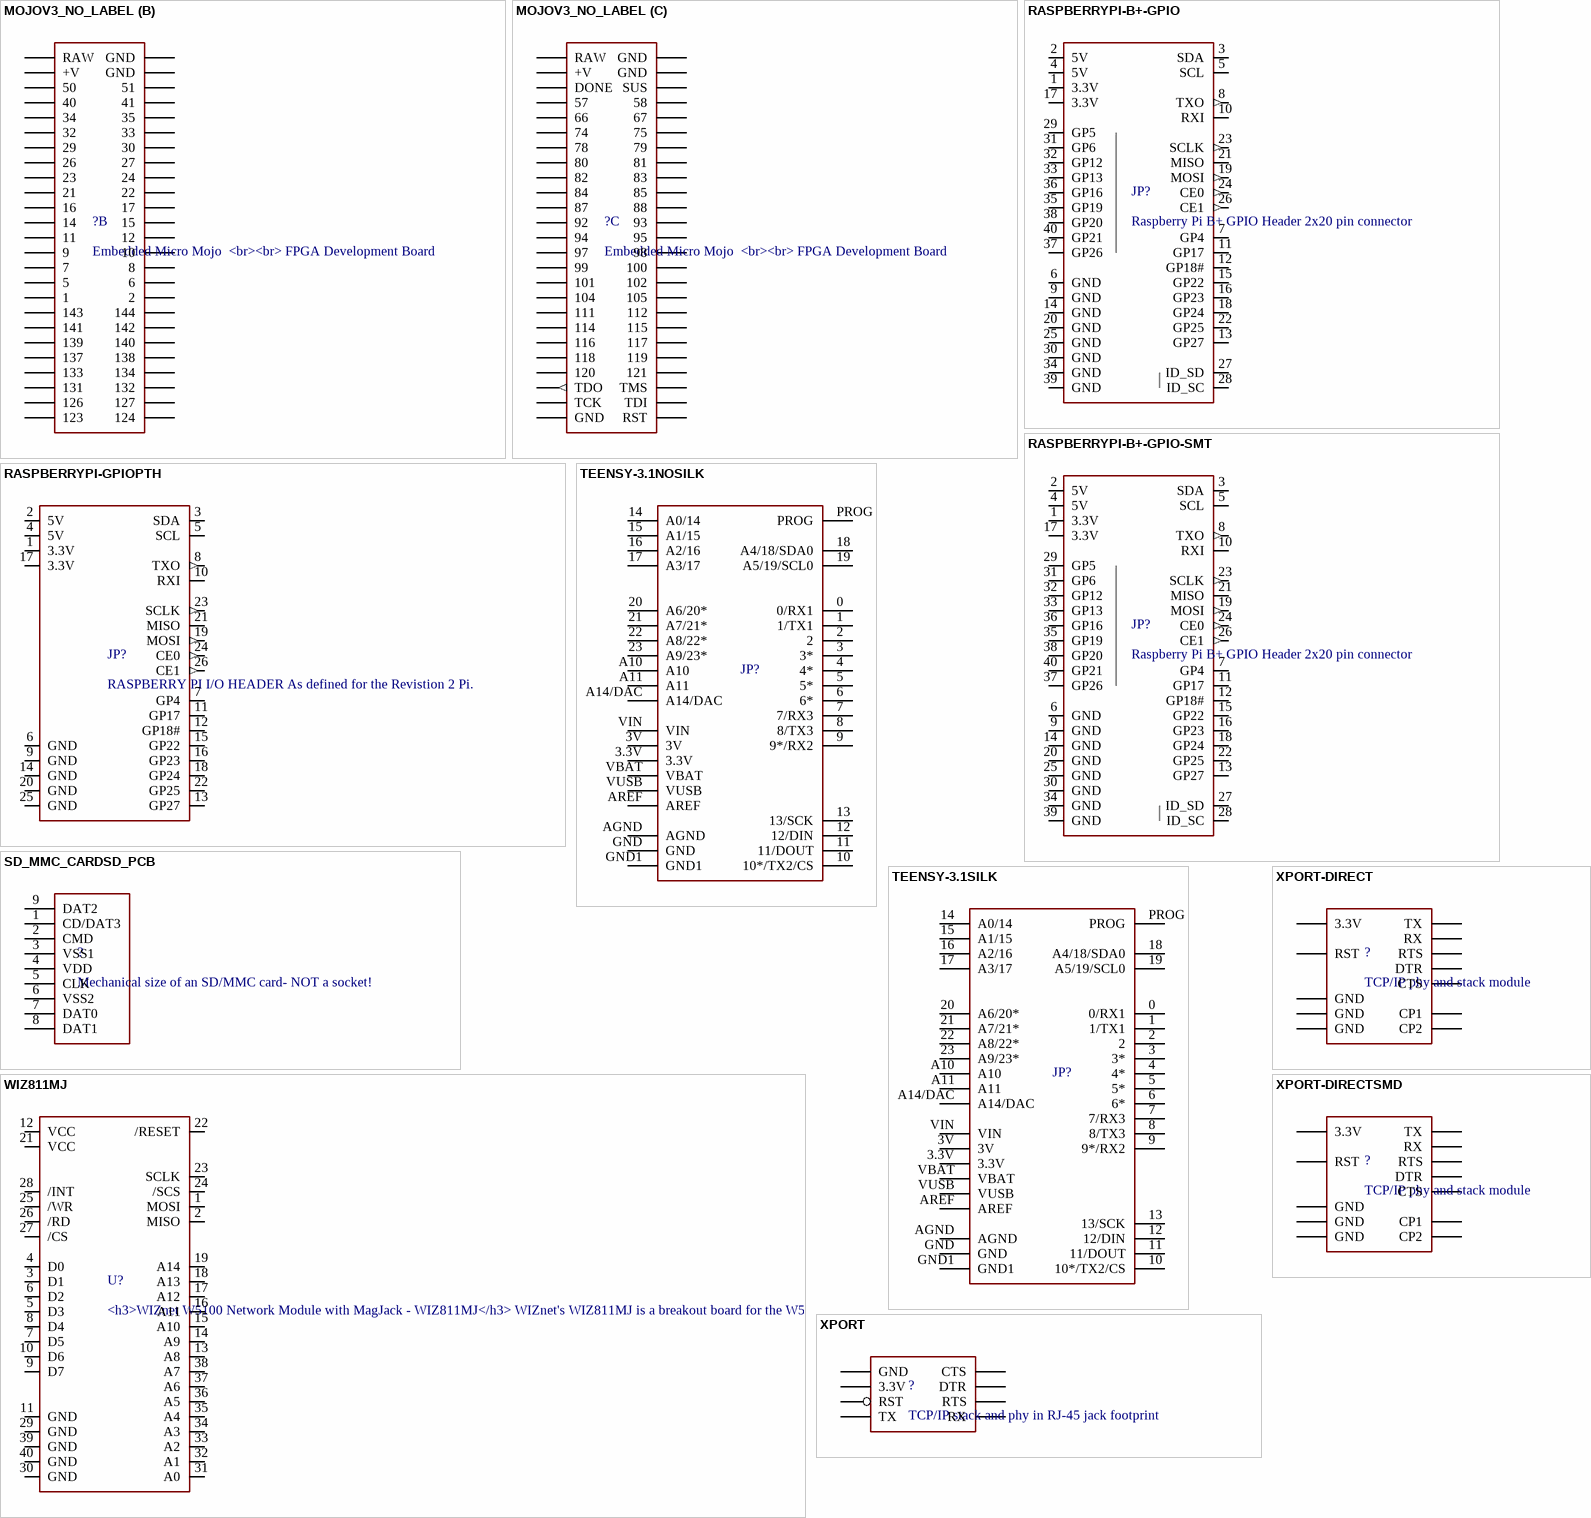
[diagram p5: symbols MOJOV3_NO_LABEL to XPORT-DIRECTSMD]

## MOJOV3_NO_LABEL
designator ?, comment Embedded Micro Mojo / <br><br> / FPGA Development Board
footprint MOJO_V3_NO_LABEL
part A pins: A0, A1, A4, A5, A6, A7, A8, A9, AREF, GND@5 GND (oe)
part B pins: 1, 2, 5, 6, 7, 8, 9, 10, 11, 12, 14, 15, 16, 17, 21, 22, 23, 24, 26, 27, 29, 30, 32, 33, 34, 35, 40, 41, 50, 51, 123, 124, 126, 127, 131, 132, 133, 134, 137, 138, 139, 140, 141, 142, 143, 144, GND@1 GND (oe), GND@2 GND (oe), RAW@1 RAW (oe), V@1 +V (oe)
part C pins: 57, 58, 66, 67, 74, 75, 78, 79, 80, 81, 82, 83, 84, 85, 87, 88, 92, 93, 94, 95, 97, 98, 99, 100, 101, 102, 104, 105, 111, 112, 114, 115, 116, 117, 118, 119, 120, 121, DONE, GND@3 GND (oe), GND@4 GND (oe), GND@6 GND (oe), RAW@2 RAW (oe), RST, SUS, TCK, TDI, TDO (out), TMS, V@2 +V (oe)

## RASPBERRYPI-B+-GPIO
designator JP?, comment Raspberry Pi B+ GPIO Header / 2x20 pin connector
footprint 2X20-SHROUDED
pins: 1 3.3V (power), 2 5V (power), 3 SDA, 4 5V (power), 5 SCL, 6 GND (power), 7 GP4, 8 TXO (out), 9 GND (power), 10 RXI, 11 GP17, 12 GP18#, 13 GP27, 14 GND (power), 15 GP22, 16 GP23, 17 3.3V (power), 18 GP24, 19 MOSI (out), 20 GND (power), 21 MISO, 22 GP25, 23 SCLK (out), 24 CE0 (out), 25 GND (power), 26 CE1 (out), 27 ID_SD, 28 ID_SC, 29 GP5, 30 GND (power), 31 GP6, 32 GP12, 33 GP13, 34 GND (power), 35 GP19, 36 GP16, 37 GP26, 38 GP20, 39 GND (power), 40 GP21

## RASPBERRYPI-B+-GPIO-SMT
designator JP?, comment Raspberry Pi B+ GPIO Header / 2x20 pin connector
footprint 2X20-SHROUDED-SMT
pins: 1 3.3V (power), 2 5V (power), 3 SDA, 4 5V (power), 5 SCL, 6 GND (power), 7 GP4, 8 TXO (out), 9 GND (power), 10 RXI, 11 GP17, 12 GP18#, 13 GP27, 14 GND (power), 15 GP22, 16 GP23, 17 3.3V (power), 18 GP24, 19 MOSI (out), 20 GND (power), 21 MISO, 22 GP25, 23 SCLK (out), 24 CE0 (out), 25 GND (power), 26 CE1 (out), 27 ID_SD, 28 ID_SC, 29 GP5, 30 GND (power), 31 GP6, 32 GP12, 33 GP13, 34 GND (power), 35 GP19, 36 GP16, 37 GP26, 38 GP20, 39 GND (power), 40 GP21

## RASPBERRYPI-GPIOPTH
designator JP?, comment RASPBERRY PI I/O HEADER / As defined for the Revistion 2 Pi.
DIST: sparkfun; DIST_ID: PRT-11490
footprint 2X13-SHROUDED
pins: 1 3.3V (power), 2 5V (power), 3 SDA, 4 5V (power), 5 SCL, 6 GND (power), 7 GP4, 8 TXO (out), 9 GND (power), 10 RXI, 11 GP17, 12 GP18#, 13 GP27, 14 GND (power), 15 GP22, 16 GP23, 17 3.3V (power), 18 GP24, 19 MOSI (out), 20 GND (power), 21 MISO, 22 GP25, 23 SCLK (out), 24 CE0 (out), 25 GND (power), 26 CE1 (out)

## SD_MMC_CARDSD_PCB
designator ?, comment Mechanical size of an SD/MMC card- NOT a socket!
footprint SD-MMC-CARD
pins: 1 CD/DAT3, 2 CMD, 3 VSS1, 4 VDD, 5 CLK, 6 VSS2, 7 DAT0, 8 DAT1, 9 DAT2

## TEENSY-3.1NOSILK
designator JP?
SF_ID: DEV-12646
footprint TEENSY-3.1_NOSILK
pins: 0 0/RX1, 1 1/TX1, 2, 3 3*, 3.3V, 3V, 4 4*, 5 5*, 6 6*, 7 7/RX3, 8 8/TX3, 9 9*/RX2, 10 10*/TX2/CS, 11 11/DOUT, 12 12/DIN, 13 13/SCK, 14 A0/14, 15 A1/15, 16 A2/16, 17 A3/17, 18 A4/18/SDA0, 19 A5/19/SCL0, 20 A6/20*, 21 A7/21*, 22 A8/22*, 23 A9/23*, A10, A11, A14/DAC, AGND, AREF, GND, GND1, PROG, VBAT, VIN, VUSB

## TEENSY-3.1SILK
designator JP?
SF_ID: DEV-12646
footprint TEENSY-3.1
pins: 0 0/RX1, 1 1/TX1, 2, 3 3*, 3.3V, 3V, 4 4*, 5 5*, 6 6*, 7 7/RX3, 8 8/TX3, 9 9*/RX2, 10 10*/TX2/CS, 11 11/DOUT, 12 12/DIN, 13 13/SCK, 14 A0/14, 15 A1/15, 16 A2/16, 17 A3/17, 18 A4/18/SDA0, 19 A5/19/SCL0, 20 A6/20*, 21 A7/21*, 22 A8/22*, 23 A9/23*, A10, A11, A14/DAC, AGND, AREF, GND, GND1, PROG, VBAT, VIN, VUSB

## WIZ811MJ
designator U?, comment <h3>WIZnet W5100 Network Module with MagJack - WIZ811MJ</h3> / WIZnet's WIZ811MJ is a breakout board for the W5100 embedded TCP/IP chip. Also included on the board is a RJ-45 MagJack Connector (RJ45 with X'FMR).<br><br> / See http://www.sparkfun.com/commerce/product_info.php?products_id=9473 for more documentation and info.<br> / <B>**UNPROVEN</b>
footprint WIZ811MJ
pins: 1 MOSI, 2 MISO, 3 D1, 4 D0, 5 D3, 6 D2, 7 D5, 8 D4, 9 D7, 10 D6, 11 GND, 12 VCC, 13 A8, 14 A9, 15 A10, 16 A11, 17 A12, 18 A13, 19 A14, 21 VCC, 22 /RESET, 23 SCLK, 24 /SCS, 25 /WR, 26 /RD, 27 /CS, 28 /INT, 29 GND, 30 GND, 31 A0, 32 A1, 33 A2, 34 A3, 35 A4, 36 A5, 37 A6, 38 A7, 39 GND, 40 GND

## XPORT
designator ?, comment TCP/IP stack and phy in RJ-45 jack footprint
footprint XPORT
pins: P1 GND, P2 3.3V, P3 RST, P4 TX, P5 RX, P6 RTS, P7 DTR, P8 CTS

## XPORT-DIRECT
designator ?, comment TCP/IP phy and stack module
footprint XPORT_DIRECT_MODULE
pins: P1 GND, P2 GND, P3 3.3V, P5 RST, P7 TX, P9 RX, P11 RTS, P13 DTR, P15 CTS, P21 CP2, P23 CP1, P24 GND

## XPORT-DIRECTSMD
designator ?, comment TCP/IP phy and stack module
footprint XPORT_DIRECT_MODULE-SMD
pins: P1 GND, P2 GND, P3 3.3V, P5 RST, P7 TX, P9 RX, P11 RTS, P13 DTR, P15 CTS, P21 CP2, P23 CP1, P24 GND